# EAGLE library part 1X12 (library Con-2-12-RM3,5)
1x12
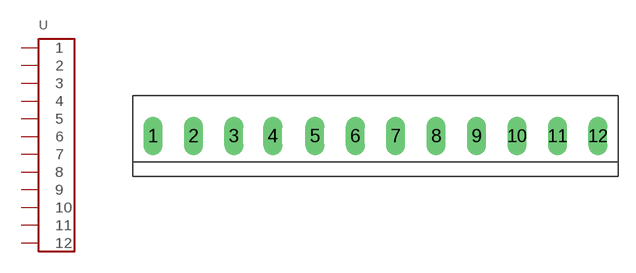
[diagram p3: symbol with the pads of 1X12; footprint 1X12]

Designator prefix -

## 1X12  [1X12]
1  1
2  2
3  3
4  4
5  5
6  6
7  7
8  8
9  9
10  10
11  11
12  12

## Footprint 1X12 (pad centres in mm)
1x12
drill 1.1 long: 1 -19.25,0; 2 -15.75,0; 3 -12.25,0; 4 -8.89,0; 5 -5.25,0; 6 -1.75,0; 7 1.75,0; 8 5.25,0; 9 8.75,0; 10 12.25,0; 11 15.75,0; 12 19.25,0